# Altium schematic symbol library resistors.SchLib: 1 symbol
Pins are listed as number, name and electrical type; pins without a type are passive.

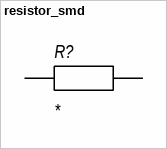
[diagram p0: symbol resistor_smd]

## resistor_smd
designator R?
SMD resistor; Manufacturer: *; Mfr. Part Number: *; Help URL: *; Type: resistor; Power/Voltage: *; Value: *; Tolerance: *; Operation Temperature: *; Note: *; Case: (
footprint RESC1608X05N (Chip Resistor, 2-Leads, Body 1,60x0,80mm, IPC Medium Density)
pins: 1 (power), 2 (power)